# EAGLE library part ATSAMD10D14A-MUT (library FlashPCB_ICs)
ATSAMD10D14A-MUT -ARM Cortexs Microcontroller IC 32-Bit Single-Core 48MHz 16KB (16K x 8) FLASH 24-QFN (4x4) Technical Specifications: Speed: 48MHz Component Search: [DATA SHEET NAME] <[FLASHPCB URL]> Datasheet: SAMD10 <https://ww1.microchip.com/downloads/en/DeviceDoc/Atmel-42242-SAM-D10_Datasheet.pdf>
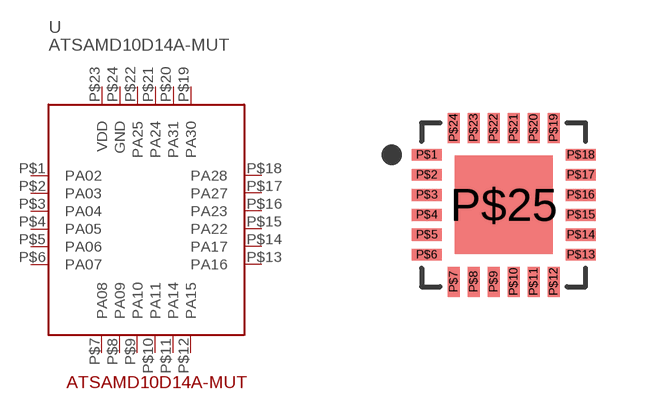
[diagram p14: symbol with the pads of 24-QFN(4X4); footprint 24-QFN(4X4)]

Designator prefix U

## ATSAMD10D14A-MUT  [24-QFN(4X4)]
P$1  PA02
P$2  PA03
P$3  PA04
P$4  PA05
P$5  PA06
P$6  PA07
P$7  PA08
P$8  PA09
P$9  PA10
P$10  PA11
P$11  PA14
P$12  PA15
P$13  PA16
P$14  PA17
P$15  PA22
P$16  PA23
P$17  PA27
P$18  PA28
P$19  PA30
P$20  PA31
P$21  PA24
P$22  PA25
P$23  VDD  pwr
P$24  GND  pwr

## Footprint 24-QFN(4X4) (pad centres in mm)
smd 0.75 x 0.3: P$1 -1.925,1.25; P$2 -1.925,0.75; P$3 -1.925,0.25; P$4 -1.925,-0.25; P$5 -1.925,-0.75; P$6 -1.925,-1.25; P$13 1.925,-1.25; P$14 1.925,-0.75; P$15 1.925,-0.25; P$16 1.925,0.25; P$17 1.925,0.75; P$18 1.925,1.25
smd 0.3 x 0.75: P$7 -1.25,-1.925; P$8 -0.75,-1.925; P$9 -0.25,-1.925; P$10 0.25,-1.925; P$11 0.75,-1.925; P$12 1.25,-1.925; P$19 1.25,1.925; P$20 0.75,1.925; P$21 0.25,1.925; P$22 -0.25,1.925; P$23 -0.75,1.925; P$24 -1.25,1.925
smd 2.45 x 2.45: P$25 0,0